# Altium schematic symbol library CN HDR 4POS JST ZR.SchLib: 1 symbol
Pins are listed as number, name and electrical type; pins without a type are passive.

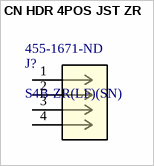
[diagram p0: symbol CN HDR 4POS JST ZR]

## CN HDR 4POS JST ZR
designator J?, comment S4B-ZR(LF)(SN)  Supplier Part Number 1: 455-1671-ND
Connector Header Through Hole, Right Angle 4 position 0.059" (1.50mm); Mfr_Name: JST; Copyright: Copyright (C) 2021 Ultra Librarian. All rights reserved.; Manufacturer_Part_Number: S4B-ZR(LF)(SN); Digi-Key_Part_Number_1: 455-1671-ND; RefDes: RefDes; Type: DEV; Supplier 1: Digi-Key
footprint CN S4B-ZR(LF)(SN)_JST
pins: 1, 2, 3, 4